# EAGLE library part MOTORDRIVER (library ProjectFromKIKS)
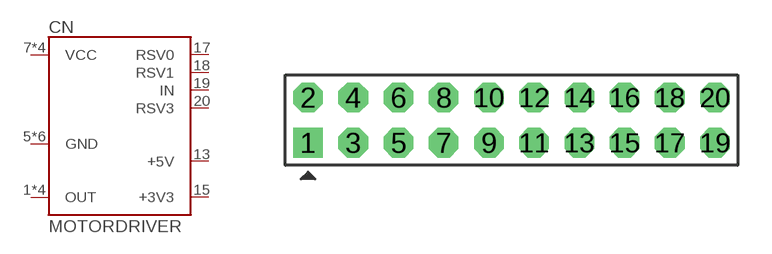
[diagram p1: symbol with the pads of PIN2X10-2.0; footprint PIN2X10-2.0]

Designator prefix CN

## MOTORDRIVER  [PIN2X10-2.0]
1  OUT
2  OUT
3  OUT
4  OUT
5  GND
6  GND
7  VCC
8  VCC
9  VCC
10  VCC
11  GND
12  GND
13  +5V
14  GND
15  +3V3
16  GND
17  RSV0
18  RSV1
19  IN
20  RSV3

## Footprint PIN2X10-2.0 (pad centres in mm)
drill 0.8 square: 1 -9,-1
drill 0.8 octagon: 2 -9,1; 3 -7,-1; 4 -7,1; 5 -5,-1; 6 -5,1; 7 -3,-1; 8 -3,1; 9 -1,-1; 10 -1,1; 11 1,-1; 12 1,1; 13 3,-1; 14 3,1; 15 5,-1; 16 5,1; 17 7,-1; 18 7,1; 19 9,-1; 20 9,1